# EAGLE library part MICRO-FIT_3.0_8POS_VERT_THRU (library Schuyler)
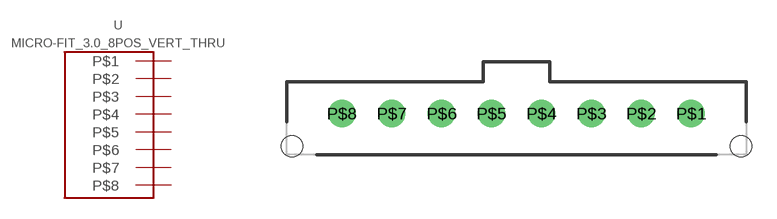
[diagram p5: symbol with the pads of MICRO-FIT_3.0_8POS_VERT_THROUGH; footprint MICRO-FIT_3.0_8POS_VERT_THROUGH]

Designator prefix -

## MICRO-FIT_3.0_8POS_VERT_THRU  [MICRO-FIT_3.0_8POS_VERT_THROUGH]
P$1  P$1
P$2  P$2
P$3  P$3
P$4  P$4
P$5  P$5
P$6  P$6
P$7  P$7
P$8  P$8

## Footprint MICRO-FIT_3.0_8POS_VERT_THROUGH (pad centres in mm)
drill 1.1: P$1 10.5,0; P$2 7.5,0; P$3 4.5,0; P$4 1.5,0; P$5 -1.5,0; P$6 -4.5,0; P$7 -7.5,0; P$8 -10.5,0
hole 1.27 at 13.5,-1.96
hole 1.27 at -13.5,-1.96